# Altium footprint library pcb_library.PcbLib: 23 footprints (part 1 of 2)
Each footprint in its own frame and in the unit in brackets; x right, y up, seen from the top. Pads: shape width x height; smd on the part's side, far side on the other; paste and mask are expansions set on the pad; w line width, h text height; cw(c..) or ccw(c..) is an arc to the next point about the centre after c.
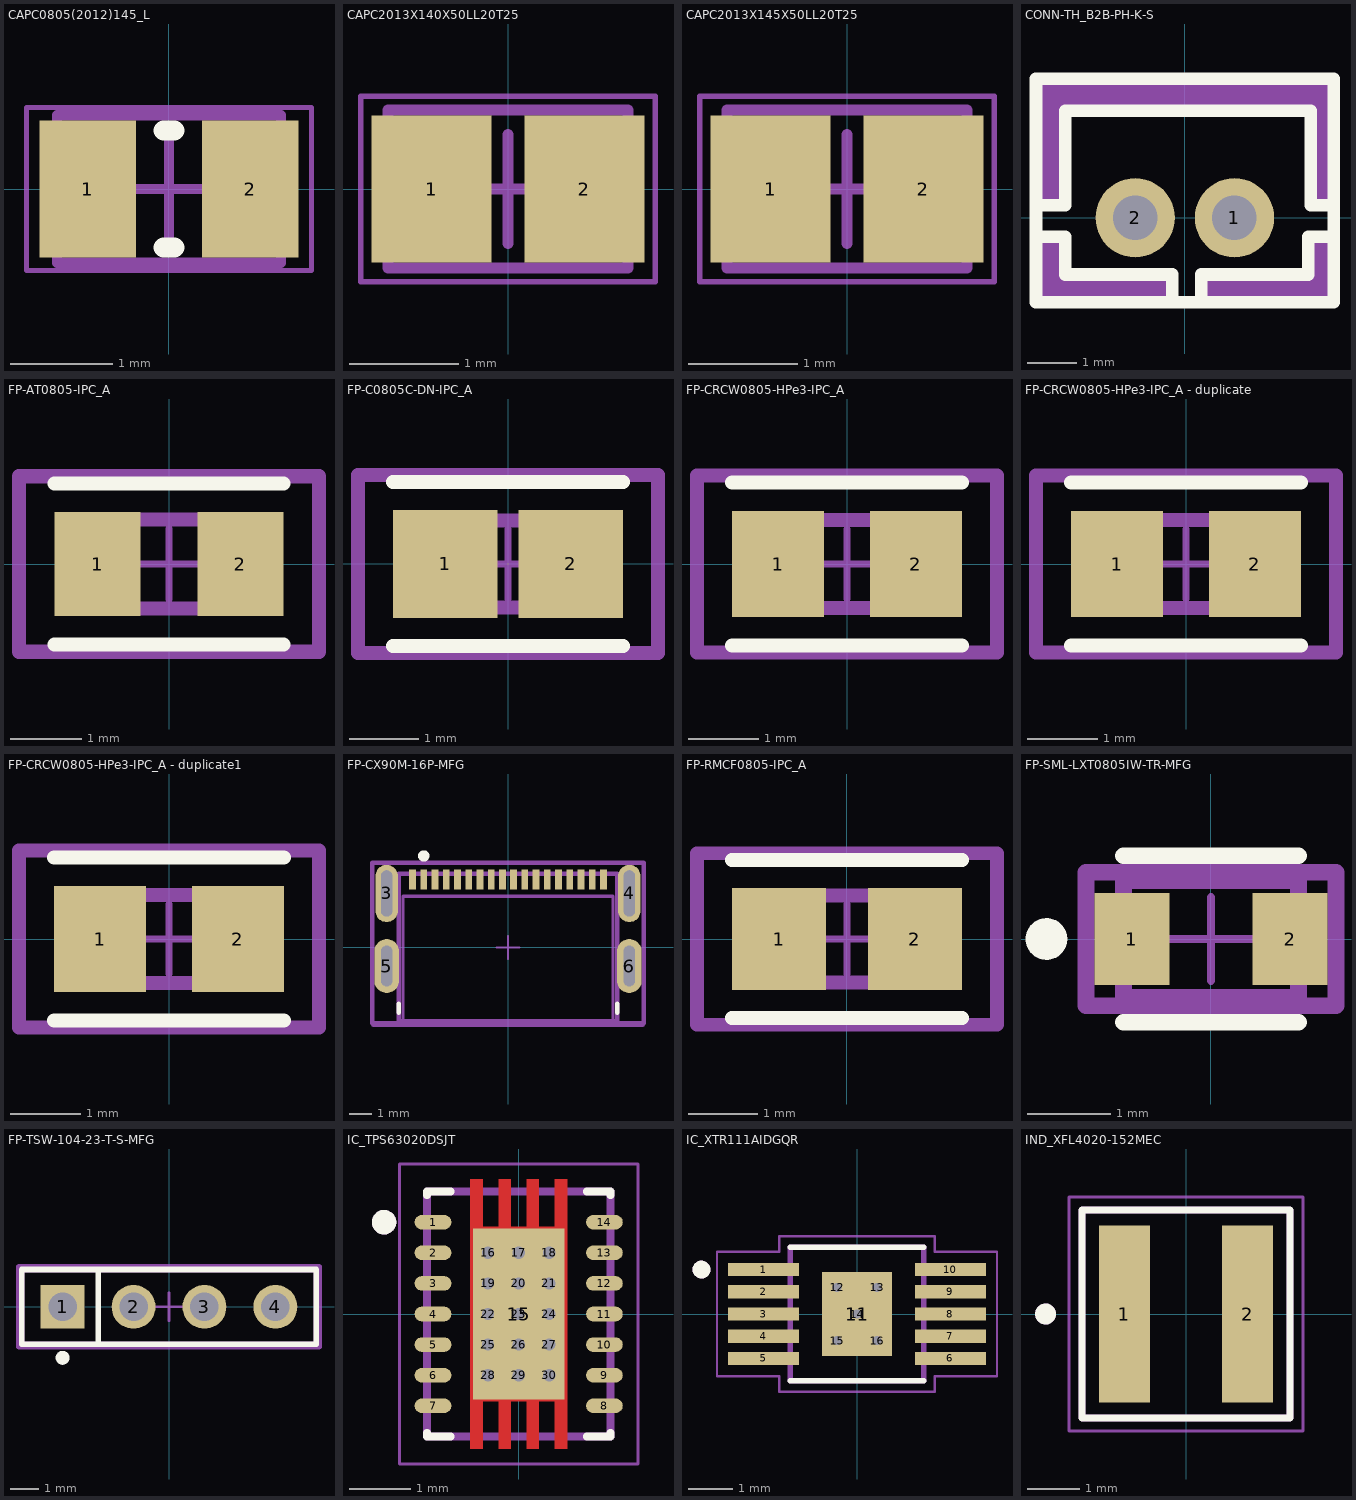
[diagram p0: the footprints below, top view; thin cyan lines are the x and y axes]

## CAPC0805(2012)145_L [mm] "Chip Capacitor, Body 2.0x1.2mm, Height 1.45mm, IPC High Density"
height 1.45
pads (2):
  rect 0.95x1.35 smd: 1(-0.8,0) 2(0.8,0)
Top Overlay:
  lines w0.2: -0.05,-0.575 0.05,-0.575 ; -0.05,0.575 0.05,0.575
Mechanical 13:
  lines w0.1: -1.1,-0.725 -1.1,0.725 1.1,0.725 1.1,-0.725 -1.1,-0.725
Mechanical 15:
  lines w0.05: -1.4,-0.8 -1.4,0.8 1.4,0.8 1.4,-0.8 -1.4,-0.8
  lines w0.1: -0.5,0 0.5,0 ; 0,-0.5 0,0.5
3D body: height 1.45, standoff 0, extent -0.6,-0.725 0.6,0.725
3D body: height 1.45, standoff 0, extent -1.1,-0.725 -0.6,0.725
3D body: height 1.45, standoff 0, extent 0.6,-0.725 1.1,0.725

## CAPC2013X140X50LL20T25 [mm] "Chip Capacitor, 2-Leads, Body 2.00x1.25mm, IPC High Density"
height 1.4
pads (2):
  rect 1.1x1.35 smd: 1(-0.7,0) 2(0.7,0)
Mechanical 13:
  lines w0.1: -1.1,-0.725 1.1,-0.725 1.1,0.725 -1.1,0.725 -1.1,-0.725
Mechanical 15:
  lines w0.05: -1.35,-0.85 1.35,-0.85 1.35,0.85 -1.35,0.85 -1.35,-0.85
  lines w0.1: -0.5,0 0.5,0 ; 0,-0.5 0,0.5
3D body: height 1.4, standoff 0, extent 0.6,-0.725 1.1,0.725
3D body: height 1.4, standoff 0, extent -1.1,-0.725 -0.6,0.725
3D body: height 1.4, standoff 0, extent -0.6,-0.725 0.6,0.725

## CAPC2013X145X50LL20T25 [mm] "Chip Capacitor, 2-Leads, Body 2.00x1.25mm, IPC High Density"
height 1.45
pads (2):
  rect 1.1x1.35 smd: 1(-0.7,0) 2(0.7,0)
Mechanical 13:
  lines w0.1: -1.1,-0.725 -1.1,0.725 1.1,0.725 1.1,-0.725 -1.1,-0.725
Mechanical 15:
  lines w0.05: -1.35,-0.85 -1.35,0.85 1.35,0.85 1.35,-0.85 -1.35,-0.85
  lines w0.1: -0.5,0 0.5,0 ; 0,-0.5 0,0.5
3D body: height 1.45, standoff 0, extent -0.6,-0.725 0.6,0.725
3D body: height 1.45, standoff 0, extent -1.1,-0.725 -0.6,0.725
3D body: height 1.45, standoff 0, extent 0.6,-0.725 1.1,0.725

## CONN-TH_B2B-PH-K-S [mil]
pads (2):
  round 63 hole 35.4: 1(39.4,0) 2(-39.4,0)
Top Overlay:
  lines w10: -115,-15 -95,-15 -95,-45 -10,-45 -10,-65 ; -115,10 -95,10 -95,85 100,85 100,10 115,10 ; 13.1,-65 13.1,-45 98.1,-45 98.1,-15 118.1,-15 ; -118.1,-66.9 -118.1,110.3 118.1,110.3 118.1,-66.9 -118.1,-66.9
Top 3D Body:
  region: -10,-45 -10,-65 -115,-65 -115,-15 -95,-15 -95,-45
  region: 118.1,-15 98.1,-15 98.1,-45 13.1,-45 13.1,-65 120,-65
  region: 115,10 100,10 100,85 -95,85 -95,10 -115,10 -115,110 115,110
Mechanical 6:
  lines w2: -116.1,-66.9 116.2,-66.9 116.2,110.3 -116.1,110.3 -116.1,-66.9
Mechanical 8:
  region: 118.5,110.3 118.1,109 117.1,108.1 115.8,107.9 114.6,108.5 113.9,109.6 113.9,110.9 114.6,112.1 115.8,112.6 117.1,112.4 118.1,111.5
Mechanical 9:
  region: -29.5,-9.8 -49.2,-9.8 -49.2,9.9 -29.5,9.9
  region: 49.2,-9.8 29.5,-9.8 29.5,9.9 49.2,9.9

## FP-AT0805-IPC_A [mm]
pads (2):
  rect 1.208x1.462 smd paste+0 mask+0: 1(-1.002,0) 2(1.002,0)
Top Overlay:
  lines w0.2: -1.606,-1.131 1.606,-1.131 ; -1.606,1.131 1.606,1.131
Top 3D Body:
  lines w0.2: -1,-0.625 -1,0.625 1,0.625 1,-0.625 -1,-0.625
Top Courtyard:
  lines w0.2: -2.106,-1.231 -2.106,1.231 2.106,1.231 2.106,-1.231 -2.106,-1.231
Top Assembly:
  lines w0.2: -2.106,-1.231 -2.106,1.231 2.106,1.231 2.106,-1.231 -2.106,-1.231
  text ".Designator" at 0,0.189 h1
Top Component Center:
  lines w0.1: -0.5,0 0.5,0 ; 0,-0.5 0,0.5
3D body "Res_Yageo_AT0805BRA0710KL_eec.STEP": height 0.25, standoff 0, extent -2.106,-1.231 2.106,1.231

## FP-C0805C-DN-IPC_A [mm]
pads (2):
  rect 1.505x1.556 smd paste+0 mask+0: 1(-0.901,0) 2(0.901,0)
Top Overlay:
  lines w0.2: -1.653,-1.178 1.653,-1.178 ; -1.653,1.178 1.653,1.178
Top 3D Body:
  lines w0.2: -1,-0.625 -1,0.625 1,0.625 1,-0.625 -1,-0.625
Top Courtyard:
  lines w0.2: -2.153,-1.278 -2.153,1.278 2.153,1.278 2.153,-1.278 -2.153,-1.278
Top Assembly:
  lines w0.2: -2.153,-1.278 -2.153,1.278 2.153,1.278 2.153,-1.278 -2.153,-1.278
  text ".Designator" at 0,0.189 h1
Top Component Center:
  lines w0.1: -0.5,0 0.5,0 ; 0,-0.5 0,0.5
3D body "Cap_KEMET_C0805C472J3HAC_eec.STEP": height 0.25, standoff 0, extent -2.153,-1.278 2.153,1.278

## FP-CRCW0805-HPe3-IPC_A [mm]
pads (2):
  rect 1.306x1.508 smd paste+0 mask+0: 1(-0.976,0) 2(0.976,0)
Top Overlay:
  lines w0.2: -1.629,-1.154 1.629,-1.154 ; -1.629,1.154 1.629,1.154
Top 3D Body:
  lines w0.2: -1,-0.625 1,-0.625 1,0.625 -1,0.625 -1,-0.625
Top Courtyard:
  lines w0.2: -2.129,-1.254 2.129,-1.254 2.129,1.254 -2.129,1.254 -2.129,-1.254
Top Assembly:
  lines w0.2: -2.129,-1.254 2.129,-1.254 2.129,1.254 -2.129,1.254 -2.129,-1.254
  text ".Designator" at 0,0.189 h1
Top Component Center:
  lines w0.1: -0.5,0 0.5,0 ; 0,-0.5 0,0.5
3D body "Res_Vishay_CRCW08053R00FKEAHP_eec.STEP": height 0.25, standoff 0, extent -2.129,-1.254 2.129,1.254

## FP-CRCW0805-HPe3-IPC_A - duplicate [mm]
pads (2):
  rect 1.306x1.508 smd paste+0 mask+0: 1(-0.976,0) 2(0.976,0)
Top Overlay:
  lines w0.2: -1.629,-1.154 1.629,-1.154 ; -1.629,1.154 1.629,1.154
Top 3D Body:
  lines w0.2: -1,-0.625 -1,0.625 1,0.625 1,-0.625 -1,-0.625
Top Courtyard:
  lines w0.2: -2.129,-1.254 -2.129,1.254 2.129,1.254 2.129,-1.254 -2.129,-1.254
Top Assembly:
  lines w0.2: -2.129,-1.254 -2.129,1.254 2.129,1.254 2.129,-1.254 -2.129,-1.254
  text ".Designator" at 0,0.189 h1
Top Component Center:
  lines w0.1: -0.5,0 0.5,0 ; 0,-0.5 0,0.5
3D body "Res_Vishay_CRCW08053R00FKEAHP_eec.STEP": height 0.25, standoff 0, extent -2.129,-1.254 2.129,1.254

## FP-CRCW0805-HPe3-IPC_A - duplicate1 [mm]
pads (2):
  rect 1.306x1.508 smd paste+0 mask+0: 1(-0.976,0) 2(0.976,0)
Top Overlay:
  lines w0.2: -1.629,-1.154 1.629,-1.154 ; -1.629,1.154 1.629,1.154
Top 3D Body:
  lines w0.2: -1,-0.625 1,-0.625 1,0.625 -1,0.625 -1,-0.625
Top Courtyard:
  lines w0.2: -2.129,-1.254 2.129,-1.254 2.129,1.254 -2.129,1.254 -2.129,-1.254
Top Assembly:
  lines w0.2: -2.129,-1.254 2.129,-1.254 2.129,1.254 -2.129,1.254 -2.129,-1.254
  text ".Designator" at 0,0.189 h1
Top Component Center:
  lines w0.1: -0.5,0 0.5,0 ; 0,-0.5 0,0.5
3D body "Res_Vishay_CRCW08053R00FKEAHP_eec.STEP": height 0.25, standoff 0, extent -2.129,-1.254 2.129,1.254

## FP-CX90M-16P-MFG [mm]
pads (22):
  rect 0.3x0.9 smd paste+0 mask+0: 1(-4.25,3.025) 2(4.25,3.025) A1(-3.75,3.025) A4(-2.75,3.025) A5(-1.75,3.025) A6(-0.75,3.025) A7(0.75,3.025) A8(1.75,3.025) A9(2.75,3.025) A12(3.75,3.025) B1(3.25,3.025) B4(2.25,3.025) B5(1.25,3.025) B6(0.25,3.025) B7(-0.25,3.025) B8(-1.25,3.025) B9(-2.25,3.025) B12(-3.25,3.025)
  rrect100% 1x2.55 hole 2.05 slot 0.5 at 0 deg paste-2539.97 mask+0: 3(-5.4,2.405) 4(5.4,2.405)
  rrect100% 1.1x2.4 hole 1.8 slot 0.5 at 0 deg paste-2539.97 mask+0: 5(-5.4,-0.825) 6(5.4,-0.825)
Top Overlay:
  circle w0.25: c-3.75,4.075 r0.125
  lines w0.2: -4.87,-2.9 -4.87,-2.5 ; 4.87,-2.9 4.87,-2.5
Top 3D Body:
  lines w0.2: -6,-3.445 6,-3.445 ; -4.87,-3.275 4.87,-3.275 4.87,3.275 -4.87,3.275 -4.87,-3.275
Top Courtyard:
  lines w0.2: -6.05,-3.375 6.05,-3.375 6.05,3.78 -6.05,3.78 -6.05,-3.375
Board:
  lines w0.15: -4.675,-3.445 -4.675,2.275 4.675,2.275 4.675,-3.445
Top Assembly:
  lines w0.2: -6.05,-3.375 6.05,-3.375 6.05,3.78 -6.05,3.78 -6.05,-3.375
  text ".Designator" at 0,0.203 h1
Top Component Center:
  lines w0.1: -0.5,0 0.5,0 ; 0,-0.5 0,0.5
3D body "Conn_Hirose_CX90M-16P_eec.STEP": height 0.25, standoff 0, extent -6.05,-3.375 6.05,3.78

## FP-RMCF0805-IPC_A [mm]
pads (2):
  rect 1.355x1.462 smd paste+0 mask+0: 1(-0.976,0) 2(0.976,0)
Top Overlay:
  lines w0.2: -1.653,-1.131 1.653,-1.131 ; -1.653,1.131 1.653,1.131
Top 3D Body:
  lines w0.2: -1,-0.625 1,-0.625 1,0.625 -1,0.625 -1,-0.625
Top Courtyard:
  lines w0.2: -2.153,-1.231 2.153,-1.231 2.153,1.231 -2.153,1.231 -2.153,-1.231
Top Assembly:
  lines w0.2: -2.153,-1.231 2.153,-1.231 2.153,1.231 -2.153,1.231 -2.153,-1.231
  text ".Designator" at 0,0.189 h1
Top Component Center:
  lines w0.1: -0.5,0 0.5,0 ; 0,-0.5 0,0.5
3D body "Res_Stackpole_Electronics_RMCF0805JT220K_eec.STEP": height 0.25, standoff 0, extent -2.153,-1.231 2.153,1.231

## FP-SML-LXT0805IW-TR-MFG [mm]
pads (2):
  rect 0.9x1.1 smd paste+0 mask+0: 1(-0.95,0) 2(0.95,0)
Top Overlay:
  circle w0.25: c-1.975,0 r0.125
  lines w0.2: -1.05,-1 1.05,-1 ; -1.05,1 1.05,1
Top 3D Body:
  lines w0.2: -1.05,-0.7 1.05,-0.7 1.05,0.7 -1.05,0.7 -1.05,-0.7
Top Courtyard:
  lines w0.2: -1.5,-0.8 1.5,-0.8 1.5,0.8 -1.5,0.8 -1.5,-0.8
Top Assembly:
  lines w0.2: -1.5,-0.8 1.5,-0.8 1.5,0.8 -1.5,0.8 -1.5,-0.8
  text ".Designator" at 0,0 h1
Top Component Center:
  lines w0.1: -0.5,0 0.5,0 ; 0,-0.5 0,0.5
3D body "Diode_Lumex_SML-LXT0805IW-TR_eec.STEP": height 0.25, standoff 0, extent -1.5,-0.8 1.5,0.8
3D body "Diode_Lumex_SML-LXT0805IW-TR_eec.STEP": height 0.25, standoff 0, extent -1.5,-0.8 1.5,0.8

## FP-TSW-104-23-T-S-MFG [mm]
pads (4):
  rect 1.57x1.57 hole 1.02 paste-2539.97 mask+0: 1(-3.81,0)
  round 1.57 hole 1.02 paste-2539.97 mask+0: 2(-1.27,0) 3(1.27,0) 4(3.81,0)
Top Overlay:
  circle w0.25: c-3.81,-1.825 r0.125
  lines w0.2: -2.54,-1.335 -2.54,1.335 ; -5.27,-1.335 -5.27,1.335 5.27,1.335 5.27,-1.335 -5.27,-1.335
Top 3D Body:
  lines w0.2: -5.27,-1.335 -5.27,1.335 5.27,1.335 5.27,-1.335 -5.27,-1.335
Top Courtyard:
  lines w0.2: -5.37,-1.435 -5.37,1.435 5.37,1.435 5.37,-1.435 -5.37,-1.435
Top Assembly:
  lines w0.2: -5.37,-1.435 -5.37,1.435 5.37,1.435 5.37,-1.435 -5.37,-1.435
  text ".Designator" at 0,0.189 h1
Top Component Center:
  lines w0.1: -0.5,0 0.5,0 ; 0,-0.5 0,0.5
3D body "Conn_Samtec_TSW-104-23-T-S_eec.STEP": height 0.25, standoff 0, extent -5.37,-1.435 5.37,1.435

## IC_TPS63020DSJT [mm]
height 1
pads (30):
  oval 0.6x0.24 smd mask+0: 1(-1.4,1.5) 2(-1.4,1) 3(-1.4,0.5) 4(-1.4,0) 5(-1.4,-0.5) 6(-1.4,-1) 7(-1.4,-1.5) 8(1.4,-1.5) 9(1.4,-1) 10(1.4,-0.5) 11(1.4,0) 12(1.4,0.5) 13(1.4,1) 14(1.4,1.5)
  rect 1.5x2.8 smd paste-2 mask+0: 15(0,0)
  round 0.3 hole 0.2: 16(-0.5,1) 17(0,1) 18(0.5,1) 19(-0.5,0.5) 20(0,0.5) 21(0.5,0.5) 22(-0.5,0) 23(0,0) 24(0.5,0) 25(-0.5,-0.5) 26(0,-0.5) 27(0.5,-0.5) 28(-0.5,-1) 29(0,-1) 30(0.5,-1)
Top Layer:
  region: 0.79,-2.2 0.59,-2.2 0.59,-1.425 0.33,-1.425 0.33,-2.2 0.13,-2.2 0.13,-1.425 -0.13,-1.425 -0.13,-2.2 -0.33,-2.2 -0.33,-1.425 -0.59,-1.425 -0.59,-2.2 -0.79,-2.2 -0.79,2.2 -0.59,2.2 -0.59,1.425 -0.33,1.425 -0.33,2.2 -0.13,2.2 -0.13,1.425 0.13,1.425 0.13,2.2 0.33,2.2 0.33,1.425 0.59,1.425 0.59,2.2 0.79,2.2
Top Overlay:
  circle w0.2: c-2.2,1.5 r0.1
  lines w0.127: -1.5,-1.94 -1.5,-2 -1.11,-2 ; -1.5,1.94 -1.5,2 -1.11,2 ; 1.11,-2 1.5,-2 1.5,-1.94 ; 1.11,2 1.5,2 1.5,1.94
Top Paste:
  region: -0.13,0.1 -0.79,0.1 -0.79,2.2 -0.59,2.2 -0.59,1.35 -0.33,1.35 -0.33,2.2 -0.13,2.2
  region: 0.79,0.1 0.13,0.1 0.13,2.2 0.33,2.2 0.33,1.35 0.59,1.35 0.59,2.2 0.79,2.2
  region: 0.79,-2.2 0.59,-2.2 0.59,-1.35 0.33,-1.35 0.33,-2.2 0.13,-2.2 0.13,-0.1 0.79,-0.1
  region: -0.13,-2.2 -0.33,-2.2 -0.33,-1.35 -0.59,-1.35 -0.59,-2.2 -0.79,-2.2 -0.79,-0.1 -0.13,-0.1
Top Solder:
  drawing of 15 lines, arcs and shapes, not listed
Mechanical 13:
  circle w0.2: c-2.2,1.5 r0.1
  lines w0.127: -1.5,-2 1.5,-2 1.5,2 -1.5,2 -1.5,-2
Mechanical 15:
  lines w0.05: -1.95,-2.45 1.95,-2.45 1.95,2.45 -1.95,2.45 -1.95,-2.45
3D body "step_temp.STEP": height 1, standoff 0, extent -1.5,-2 1.5,2

## IC_XTR111AIDGQR [mm]
pads (16):
  rect 1.6x0.3 smd paste-0.025 mask+0.05: 1(-2.1,1) 2(-2.1,0.5) 3(-2.1,0) 4(-2.1,-0.5) 5(-2.1,-1) 6(2.1,-1) 7(2.1,-0.5) 8(2.1,0) 9(2.1,0.5) 10(2.1,1)
  rect 1.57x1.88 smd: 11(0,0)
  round 0.4 hole 0.2 mask+0: 12(-0.45,0.6) 13(0.45,0.6) 14(0,0) 15(-0.45,-0.6) 16(0.45,-0.6)
Top Overlay:
  circle w0.2: c-3.5,1 r0.1
  lines w0.127: -1.5,-1.5 1.5,-1.5 ; -1.5,1.5 1.5,1.5
Mechanical 13:
  circle w0.2: c-3.5,1 r0.1
  lines w0.127: -1.5,-1.5 -1.5,1.5 1.5,1.5 1.5,-1.5 -1.5,-1.5
Mechanical 15:
  lines w0.05: -3.15,-1.4 -3.15,1.4 -1.75,1.4 -1.75,1.75 1.75,1.75 1.75,1.4 3.15,1.4 3.15,-1.4 1.75,-1.4 1.75,-1.75 -1.75,-1.75 -1.75,-1.4 -3.15,-1.4
3D body "step_temp.STEP": height 1.1, standoff 0, extent -2.45,-1.5 2.45,1.5

## IND_XFL4020-152MEC [mm]
height 2.1
pads (2):
  rect 0.98x3.4 smd: 1(-1.185,0) 2(1.185,0)
Top Overlay:
  circle w0.2: c-2.7,0 r0.1
  lines w0.127: -2,-2 2,-2 2,2 -2,2 -2,-2
Mechanical 13:
  circle w0.2: c-2.7,0 r0.1
  lines w0.127: -2,-2 -2,2 2,2 2,-2 -2,-2
Mechanical 15:
  lines w0.05: -2.25,-2.25 -2.25,2.25 2.25,2.25 2.25,-2.25 -2.25,-2.25
3D body "step_temp.STEP": height 2.1, standoff 0, extent -2,-2 2,2